# Altium footprint library SFE-Custom-Footprints.PcbLib: 154 footprints (part 4 of 10)
Each footprint in its own frame and in the unit in brackets; x right, y up, seen from the top. Pads: shape width x height; smd on the part's side, far side on the other; paste and mask are expansions set on the pad; w line width, h text height; cw(c..) or ccw(c..) is an arc to the next point about the centre after c.
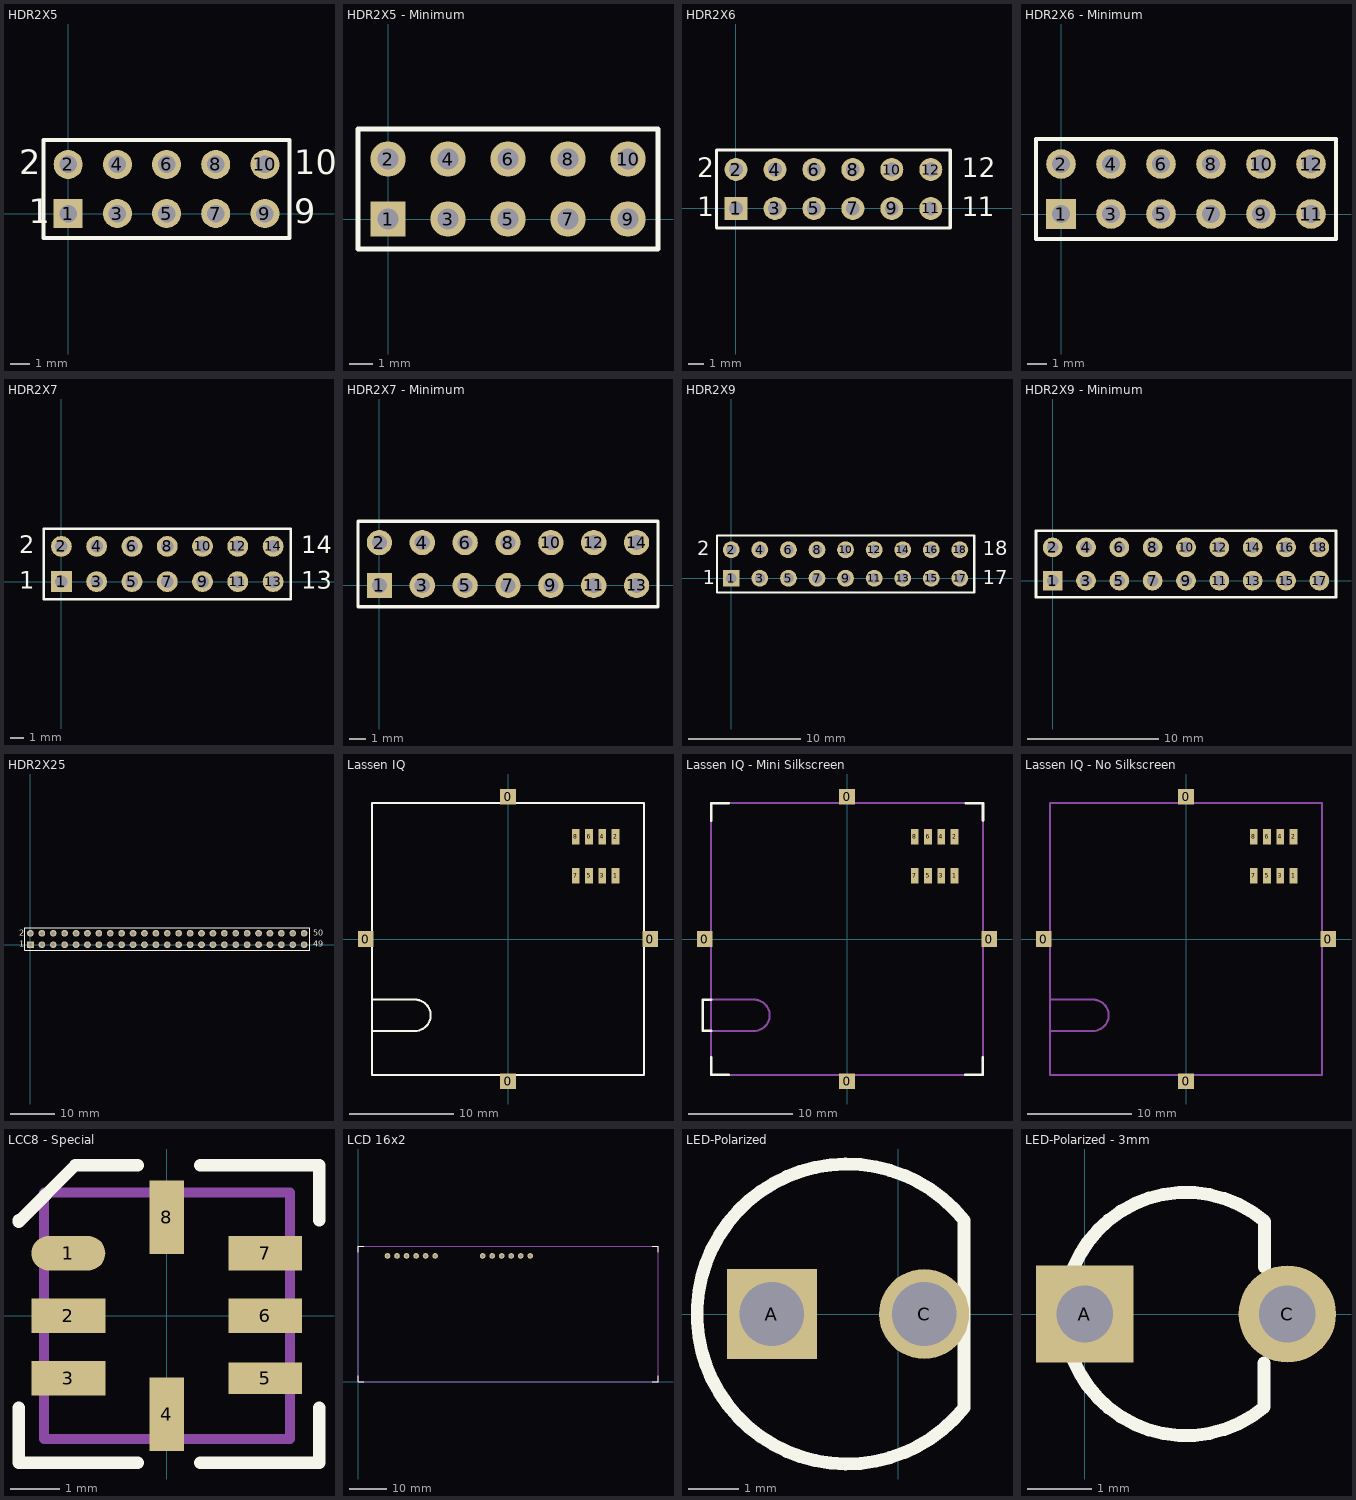
[diagram p3: the footprints below, top view; thin cyan lines are the x and y axes]

## HDR2X5 [mm]
pads (10):
  rect 1.5x1.5 hole 0.9: 1(0,0)
  round 1.5 hole 0.9: 2(0,2.54) 3(2.54,0) 4(2.54,2.54) 5(5.08,0) 6(5.08,2.54) 7(7.62,0) 8(7.62,2.54) 9(10.16,0) 10(10.16,2.54)
Top Overlay:
  lines w0.2: -1.27,-1.27 -1.27,3.81 11.43,3.81 11.43,-1.27 -1.27,-1.27
  text "2" at -2.54,2.032 h1.27
  text "1" at -2.032,-0.508 h1.27
  text "9" at 11.684,-0.508 h1.27
  text "10" at 11.684,2.032 h1.27

## HDR2X5 - Minimum [mm]
pads (10):
  rect 1.5x1.5 hole 0.9: 1(0,0)
  round 1.5 hole 0.9: 2(0,2.54) 3(2.54,0) 4(2.54,2.54) 5(5.08,0) 6(5.08,2.54) 7(7.62,0) 8(7.62,2.54) 9(10.16,0) 10(10.16,2.54)
Top Overlay:
  lines w0.2: -1.27,-1.27 -1.27,3.81 11.43,3.81 11.43,-1.27 -1.27,-1.27

## HDR2X6 [mm]
pads (12):
  rect 1.5x1.5 hole 0.9: 1(0,0)
  round 1.5 hole 0.9: 2(0,2.54) 3(2.54,0) 4(2.54,2.54) 5(5.08,0) 6(5.08,2.54) 7(7.62,0) 8(7.62,2.54) 9(10.16,0) 10(10.16,2.54) 11(12.7,0) 12(12.7,2.54)
Top Overlay:
  lines w0.2: -1.27,-1.27 -1.27,3.81 13.97,3.81 13.97,-1.27 -1.27,-1.27
  text "2" at -2.54,2.032 h1.27
  text "1" at -2.54,-0.508 h1.27
  text "1" at 14.732,-0.508 h1.27
  text "1" at 15.748,-0.508 h1.27
  text "12" at 14.732,2.032 h1.27

## HDR2X6 - Minimum [mm]
pads (12):
  rect 1.5x1.5 hole 0.9: 1(0,0)
  round 1.5 hole 0.9: 2(0,2.54) 3(2.54,0) 4(2.54,2.54) 5(5.08,0) 6(5.08,2.54) 7(7.62,0) 8(7.62,2.54) 9(10.16,0) 10(10.16,2.54) 11(12.7,0) 12(12.7,2.54)
Top Overlay:
  lines w0.2: -1.27,-1.27 13.97,-1.27 13.97,3.81 -1.27,3.81 -1.27,-1.27

## HDR2X7 [mm]
pads (14):
  rect 1.5x1.5 hole 0.9: 1(0,0)
  round 1.5 hole 0.9: 2(0,2.54) 3(2.54,0) 4(2.54,2.54) 5(5.08,0) 6(5.08,2.54) 7(7.62,0) 8(7.62,2.54) 9(10.16,0) 10(10.16,2.54) 11(12.7,0) 12(12.7,2.54) 13(15.24,0) 14(15.24,2.54)
Top Overlay:
  lines w0.2: -1.27,-1.27 16.51,-1.27 16.51,3.81 -1.27,3.81 -1.27,-1.27
  text "2" at -3.048,2.032 h1.27
  text "13" at 17.272,-0.508 h1.27
  text "14" at 17.272,2.032 h1.27
  text "1" at -3.048,-0.508 h1.27

## HDR2X7 - Minimum [mm]
pads (14):
  rect 1.5x1.5 hole 0.9: 1(0,0)
  round 1.5 hole 0.9: 2(0,2.54) 3(2.54,0) 4(2.54,2.54) 5(5.08,0) 6(5.08,2.54) 7(7.62,0) 8(7.62,2.54) 9(10.16,0) 10(10.16,2.54) 11(12.7,0) 12(12.7,2.54) 13(15.24,0) 14(15.24,2.54)
Top Overlay:
  lines w0.2: -1.27,-1.27 -1.27,3.81 16.51,3.81 16.51,-1.27 -1.27,-1.27

## HDR2X9 [mm]
pads (18):
  rect 1.5x1.5 hole 0.9: 1(0,0)
  round 1.5 hole 0.9: 2(0,2.54) 3(2.54,0) 4(2.54,2.54) 5(5.08,0) 6(5.08,2.54) 7(7.62,0) 8(7.62,2.54) 9(10.16,0) 10(10.16,2.54) 11(12.7,0) 12(12.7,2.54) 13(15.24,0) 14(15.24,2.54) 15(17.78,0) 16(17.78,2.54) 17(20.32,0) 18(20.32,2.54)
Top Overlay:
  lines w0.2: -1.27,-1.27 -1.27,3.81 21.59,3.81 21.59,-1.27 -1.27,-1.27
  text "2" at -3.048,2.032 h1.27
  text "1" at -2.54,-0.508 h1.27
  text "17" at 22.352,-0.508 h1.27
  text "18" at 22.352,2.032 h1.27

## HDR2X9 - Minimum [mm]
pads (18):
  rect 1.5x1.5 hole 0.9: 1(0,0)
  round 1.5 hole 0.9: 2(0,2.54) 3(2.54,0) 4(2.54,2.54) 5(5.08,0) 6(5.08,2.54) 7(7.62,0) 8(7.62,2.54) 9(10.16,0) 10(10.16,2.54) 11(12.7,0) 12(12.7,2.54) 13(15.24,0) 14(15.24,2.54) 15(17.78,0) 16(17.78,2.54) 17(20.32,0) 18(20.32,2.54)
Top Overlay:
  lines w0.2: -1.27,-1.27 21.59,-1.27 21.59,3.81 -1.27,3.81 -1.27,-1.27

## HDR2X25 [mm]
pads (50):
  rect 1.5x1.5 hole 0.9: 1(0,0)
  round 1.5 hole 0.9: 2(0,2.54) 3(2.54,0) 4(2.54,2.54) 5(5.08,0) 6(5.08,2.54) 7(7.62,0) 8(7.62,2.54) 9(10.16,0) 10(10.16,2.54) 11(12.7,0) 12(12.7,2.54) 13(15.24,0) 14(15.24,2.54) 15(17.78,0) 16(17.78,2.54) 17(20.32,0) 18(20.32,2.54) 19(22.86,0) 20(22.86,2.54) 21(25.4,0) 22(25.4,2.54) 23(27.94,0) 24(27.94,2.54) 25(30.48,0) 26(30.48,2.54) 27(33.02,0) 28(33.02,2.54) 29(35.56,0) 30(35.56,2.54) 31(38.1,0) 32(38.1,2.54) 33(40.64,0) 34(40.64,2.54) 35(43.18,0) 36(43.18,2.54) 37(45.72,0) 38(45.72,2.54) 39(48.26,0) 40(48.26,2.54) 41(50.8,0) 42(50.8,2.54) 43(53.34,0) 44(53.34,2.54) 45(55.88,0) 46(55.88,2.54) 47(58.42,0) 48(58.42,2.54) 49(60.96,0) 50(60.96,2.54)
Top Overlay:
  lines w0.2: -1.27,-1.27 -1.27,3.81 62.23,3.81 62.23,-1.27 -1.27,-1.27
  text "2" at -2.54,2.032 h1.27
  text "1" at -2.54,-0.508 h1.27
  text "49" at 62.992,-0.508 h1.27
  text "50" at 62.992,2.032 h1.27

## Lassen IQ [mm]
pads (12):
  rect 1.5x1.5 smd: 0(-13.6,0) 0(0,-13.6) 0(0,13.6) 0(13.6,0)
  rect 0.74x1.47 smd: 1(10.294,6.035) 2(10.294,9.775) 3(9.024,6.035) 4(9.024,9.775) 5(7.754,6.035) 6(7.754,9.775) 7(6.484,6.035) 8(6.484,9.775)
Top Overlay:
  lines w0.203: -13,-8.8 -8.9,-8.8 ccw(c-8.9,-7.3) -8.901,-5.8 ; -13,-5.8 -8.9,-5.8 ; -13,-13 13,-13 13,13 -13,13 -13,-13

## Lassen IQ - Mini Silkscreen [mm]
pads (12):
  rect 1.5x1.5 smd: 0(-13.6,0) 0(0,-13.6) 0(0,13.6) 0(13.6,0)
  rect 0.74x1.47 smd: 1(10.294,6.035) 2(10.294,9.775) 3(9.024,6.035) 4(9.024,9.775) 5(7.754,6.035) 6(7.754,9.775) 7(6.484,6.035) 8(6.484,9.775)
Top Overlay:
  lines w0.254: -13.798,-8.756 -13.798,-5.813 -12.983,-5.813 ; -13.779,-8.775 -13.001,-8.775 ; -12.997,11.338 -12.997,12.997 -11.338,12.996 ; -12.987,-11.328 -12.987,-12.987 -11.329,-12.987 ; 11.328,-12.983 12.987,-12.983 12.987,-11.324 ; 11.345,12.992 13.004,12.992 13.004,11.333
Mechanical 1:
  lines w0.203: -13,-8.8 -8.9,-8.8 ccw(c-8.9,-7.3) -8.901,-5.8 ; -13,-5.8 -8.9,-5.8 ; -13,-13 -13,13 13,13 13,-13 -13,-13

## Lassen IQ - No Silkscreen [mm]
pads (12):
  rect 1.5x1.5 smd: 0(-13.6,0) 0(0,-13.6) 0(0,13.6) 0(13.6,0)
  rect 0.74x1.47 smd: 1(10.294,6.035) 2(10.294,9.775) 3(9.024,6.035) 4(9.024,9.775) 5(7.754,6.035) 6(7.754,9.775) 7(6.484,6.035) 8(6.484,9.775)
Mechanical 1:
  lines w0.203: -13,-8.8 -8.9,-8.8 ccw(c-8.9,-7.3) -8.901,-5.8 ; -13,-5.8 -8.9,-5.8 ; -13,-13 13,-13 13,13 -13,13 -13,-13

## LCC8 - Special [mm]
pads (8):
  oval 1.5x0.7 smd: 1(-2,1.27)
  rect 1.5x0.7 smd: 2(-2,0) 3(-2,-1.27) 6(2,0) 7(2,1.27)
  rect 0.7x1.5 smd: 4(0,-2) 8(0,2)
  rect 1.5x0.635 smd: 5(2,-1.27)
Top Overlay:
  lines w0.254: -3.003,-1.87 -3.003,-2.987 -0.59,-2.987 ; -3.003,1.94 -3.003,1.915 -1.86,3.058 -0.59,3.058 ; 0.68,-2.987 3.093,-2.987 3.093,-1.87 ; 0.68,3.058 3.093,3.058 3.093,1.94
Mechanical 1:
  lines w0.203: -2.5,-2.5 -2.5,2.5 2.5,2.5 2.5,-2.5 -2.5,-2.5

## LCD 16x2 [mm]
pads (12):
  round 1.5 hole 0.9: 1(7.874,33.528) 2(10.414,33.528) 3(12.954,33.528) 4(15.494,33.528) 5(18.034,33.528) 6(20.574,33.528) 11(33.274,33.528) 12(35.814,33.528) 13(38.354,33.528) 14(40.894,33.528) 15(43.434,33.528) 16(45.974,33.528)
Top Overlay:
  lines w0.203: 0,1.524 0,0 1.524,0 ; 0,34.544 0,36.068 1.524,36.068 ; 78.562,0 80.086,0 80.086,1.524 ; 78.562,36.068 80.086,36.068 80.086,34.544
Mechanical 1:
  lines w0.203: 0,0 80.086,0 80.086,36.068 0,36.068 0,0

## LED-Polarized [mil]
pads (2):
  rect 70x70 hole 50: A(-98.43,0)
  round 70 hole 50: C(20,0)
Top Overlay:
  lines w10: 51.06,-72.85 cw(c-40,0) 51.06,72.85 51.06,-72.85

## LED-Polarized - 3mm [mil]
pads (2):
  rect 60x60 hole 35: A(0,0)
  round 60 hole 35: C(125,0)
Top Overlay:
  lines w8: 110.71,-30.19 110.71,-57.45 cw(c62.5,0) 110.71,57.45 ; 111,29 111,56.95